# Altium schematic symbol library iv_diodes.SchLib: 12 symbols
Pins are listed as number, name and electrical type; pins without a type are passive.

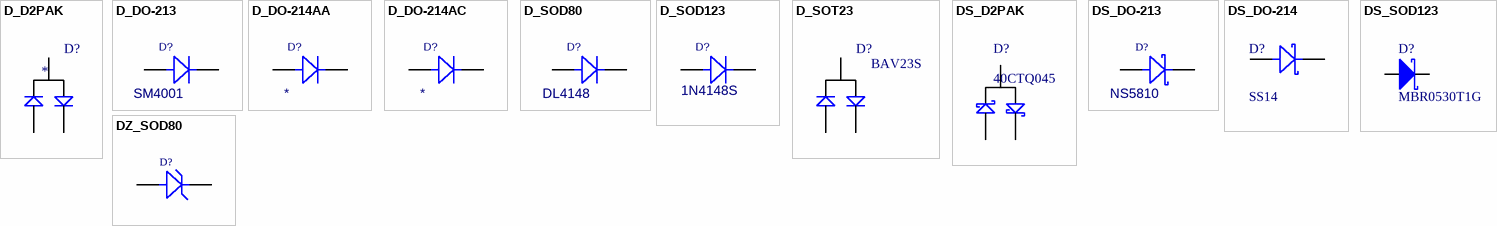
[diagram p0: symbols D_D2PAK to DZ_SOD80]

## D_D2PAK
designator D?
Diode
pins: 1, 2, 3

## D_DO-213
designator D?, comment SM4001
Diode
pins: 1 A, 2 K

## D_DO-214AA
designator D?
Diode
pins: 1 A, 2 K

## D_DO-214AC
designator D?
Diode
pins: 1 A, 2 K

## D_SOD80
designator D?, comment DL4148
Diode
pins: 1 A, 2 K

## D_SOD123
designator D?, comment 1N4148S
Diode
footprint SOD123 (SOD-123; 2 Leads; Body 2.7 x 1.6 mm, (LxW)); pin to pad 1>A 2>K
pins: 1 A, 2 K

## D_SOT23
designator D?, comment BAV23S
Schematic for BAV23S diode
footprint SOT95P248X115-3L (SOT23, 3-Leads, Body 2,95x2,48mm, Pitch 0,95mm, IPC High Density)
footprint SOT95P248X115-3N (SOT23, 3-Leads, Body 2,95x2,48mm, Pitch 0,95mm, IPC Medium Density)
footprint SOT95P248X115-3M (SOT23, 3-Leads, Body 2,95x2,48mm, Pitch 0,95mm, IPC Low Density)
pins: 1, 2, 3

## DS_D2PAK
designator D?, comment 40CTQ045
Diode
pins: 1, 2, 3

## DS_DO-213
designator D?, comment NS5810
Schottky Diode
pins: 1 A, 2 K

## DS_DO-214
designator D?, comment SS14
Schottky Diode
pins: 1 A, 2 K

## DS_SOD123
designator D?, comment MBR0530T1G
Schottky Diode
pins: 1 A, 2 K

## DZ_SOD80
designator D?, comment {Value}  (value not drawn)
Zener Diode
pins: A, K